# EAGLE library part CA8X8 (library led-matrix)
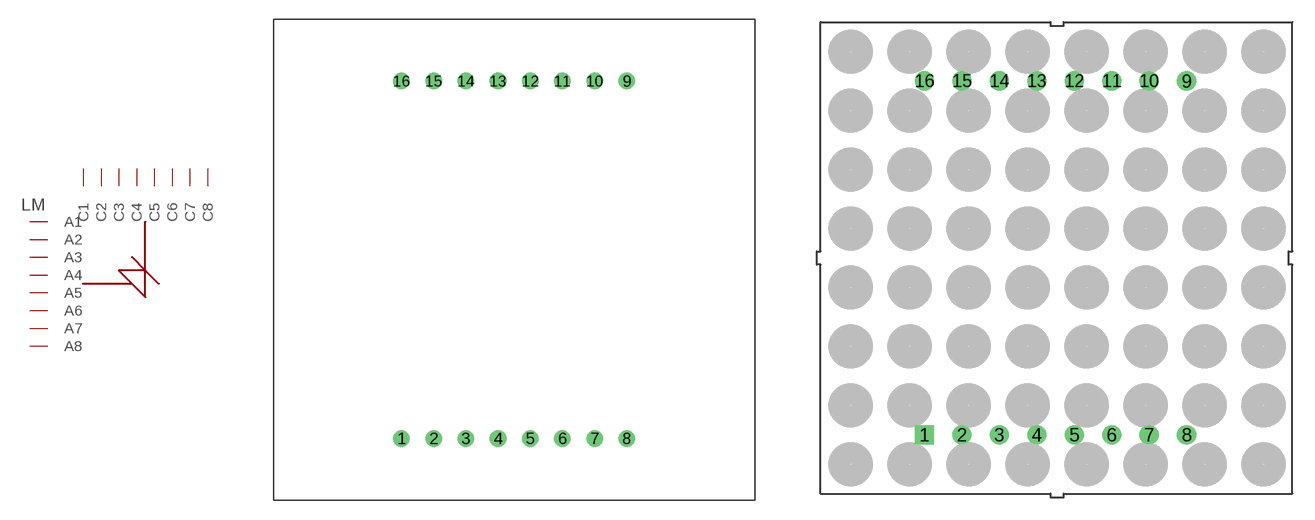
[diagram p0: symbol with the pads of 3.7MM; footprints 3.7MM, 3MM]

Designator prefix LM

## CA8X83.7MM  [3.7MM]
1  A5
2  A7
3  C2
4  C3
5  A8
6  C5
7  A6
8  A3
9  A1
10  C4
11  C6
12  A4
13  C1
14  A2
15  C7
16  C8

## CA8X83MM  [3MM]
Pads as for 3.7MM

## Footprint 3.7MM (pad centres in mm)
drill 0.8 round: 1 0,0; 2 2.54,0; 3 5.08,0; 4 7.62,0; 5 10.16,0; 6 12.7,0; 7 15.24,0; 8 17.78,0; 9 17.78,28.2; 10 15.24,28.2; 11 12.7,28.2; 12 10.16,28.2; 13 7.62,28.2; 14 5.08,28.2; 15 2.54,28.2; 16 0,28.2

## Footprint 3MM (pad centres in mm)
drill 0.8 square: 1 0,0
drill 0.8 round: 2 2.54,0; 3 5.08,0; 4 7.62,0; 5 10.16,0; 6 12.7,0; 7 15.24,0; 8 17.78,0; 9 17.78,24; 10 15.24,24; 11 12.7,24; 12 10.16,24; 13 7.62,24; 14 5.08,24; 15 2.54,24; 16 0,24